# Altium schematic symbol library On_Semiconductor_NLAS4599DFT2G.SchLib: 1 symbol
Pins are listed as number, name and electrical type; pins without a type are passive.

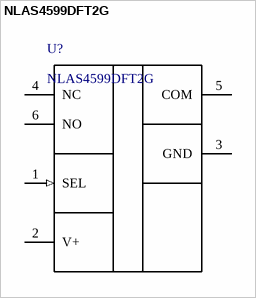
[diagram p0: symbol NLAS4599DFT2G]

## NLAS4599DFT2G
designator U?
Low Voltage Single Supply SPDT Analog Switch, 2 to 5.5 V, -55 to 125 degC, 6-Pin SC70, Pb-Free, Tape and Reel; Manufacturer: On Semiconductor; VCC Max (V): 5.5; Icc Max (uA): 2; PackageVersion: Rev. W, 01/2006; ComponentLink1Description: Manufacturer URL; DatasheetVersion: Rev. 11; Mounting Technology: Surface Mount; ComponentLink3URL: http://www.onsemi.com/pub_link/Collateral/SMF05C-D.PDF; ComponentLink3Description: Package Specification; ComponentLink1URL: http://www.onsemi.com/; Packing: Tape and Reel; VCC Min (V): 2; ComponentLink2Description: Datasheet; PartNumber: NLAS4599DFT2G; PackageReference: SC70-6-419B-02_W; PackageDescription: 6-Pin Small Outline Transistor, Body 2 x 1.25 mm, Pitch 0.65 mm; ComponentLink2URL: http://www.onsemi.com/pub_link/Collateral/NLAS4599-D.PDF; RoHS: TRUE
footprint ONSC-SC70-6-419B-02_W_V
pins: 1 SEL (in), 2 V+ (power), 3 GND (power), 4 NC, 5 COM, 6 NO